# EAGLE library part ATMEGA328PB-AU (library CASE-MCU)
ATMEGA328PB-AU, TQFP-32 Description: ATMEGA328PB-AU from Microship ATMEGA series (AVR), TQFP-32 package Links: Datasheet <http://www.farnell.com/datasheets/2047852.pdf?_ga=2.246027015.2071720333.1546461288-1112771566.1525371275> Website <https://www.microchip.com/wwwproducts/en/ATmega328p> Arduino Uno <https://store.arduino.cc/arduino-uno-rev3> Arduino Nano <https://store.arduino.cc/arduino-nano>
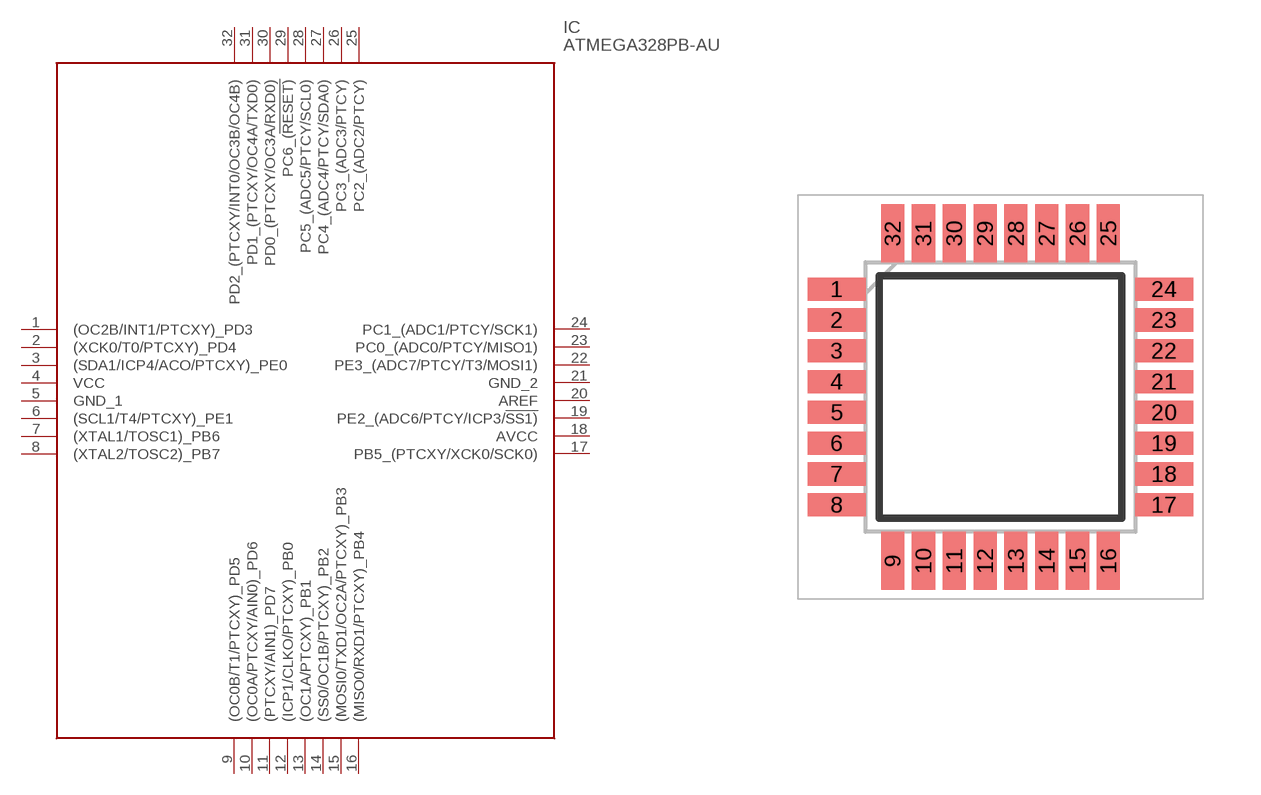
[diagram p7: symbol with the pads of QFP80P900X900X120-32N; footprint QFP80P900X900X120-32N]

Designator prefix IC

## ATMEGA328PB-AU (DESCRIPTION: ATMEL - ATMEGA328PB-AU - MCU, 8BIT, ATMEGA, 20MHZ, TQFP-32; HEIGHT: 1.2mm; MANUFACTURER_NAME: Microchip; MANUFACTURER_PART_NUMBER: ATMEGA328PB-AU; MOUSER_PART_NUMBER: 556-ATMEGA328PB-AU)  [QFP80P900X900X120-32N]
1  (OC2B/INT1/PTCXY)_PD3
2  (XCK0/T0/PTCXY)_PD4
3  (SDA1/ICP4/ACO/PTCXY)_PE0
4  VCC
5  GND_1
6  (SCL1/T4/PTCXY)_PE1
7  (XTAL1/TOSC1)_PB6
8  (XTAL2/TOSC2)_PB7
9  (OC0B/T1/PTCXY)_PD5
10  (OC0A/PTCXY/AIN0)_PD6
11  (PTCXY/AIN1)_PD7
12  (ICP1/CLKO/PTCXY)_PB0
13  (OC1A/PTCXY)_PB1
14  (SS0/OC1B/PTCXY)_PB2
15  (MOSI0/TXD1/OC2A/PTCXY)_PB3
16  (MISO0/RXD1/PTCXY)_PB4
17  PB5_(PTCXY/XCK0/SCK0)
18  AVCC
19  PE2_(ADC6/PTCY/ICP3/!SS1)
20  AREF
21  GND_2
22  PE3_(ADC7/PTCY/T3/MOSI1)
23  PC0_(ADC0/PTCY/MISO1)
24  PC1_(ADC1/PTCY/SCK1)
25  PC2_(ADC2/PTCY)
26  PC3_(ADC3/PTCY)
27  PC4_(ADC4/PTCY/SDA0)
28  PC5_(ADC5/PTCY/SCL0)
29  PC6_(!RESET)
30  PD0_(PTCXY/OC3A/RXD0)
31  PD1_(PTCXY/OC4A/TXD0)
32  PD2_(PTCXY/INT0/OC3B/OC4B)

## Footprint QFP80P900X900X120-32N (pad centres in mm)
TQFP 32A
smd 1.5 x 0.6: 1 -4.25,2.8; 2 -4.25,2; 3 -4.25,1.2; 4 -4.25,0.4; 5 -4.25,-0.4; 6 -4.25,-1.2; 7 -4.25,-2; 8 -4.25,-2.8; 17 4.25,-2.8; 18 4.25,-2; 19 4.25,-1.2; 20 4.25,-0.4; 21 4.25,0.4; 22 4.25,1.2; 23 4.25,2; 24 4.25,2.8
smd 0.6 x 1.5: 9 -2.8,-4.25; 10 -2,-4.25; 11 -1.2,-4.25; 12 -0.4,-4.25; 13 0.4,-4.25; 14 1.2,-4.25; 15 2,-4.25; 16 2.8,-4.25; 25 2.8,4.25; 26 2,4.25; 27 1.2,4.25; 28 0.4,4.25; 29 -0.4,4.25; 30 -1.2,4.25; 31 -2,4.25; 32 -2.8,4.25